# Altium footprint library Resettable_Fuse_SMD.PcbLib: 3 footprints
Each footprint in its own frame and in the unit in brackets; x right, y up, seen from the top. Pads: shape width x height; smd on the part's side, far side on the other; paste and mask are expansions set on the pad; w line width, h text height; cw(c..) or ccw(c..) is an arc to the next point about the centre after c.
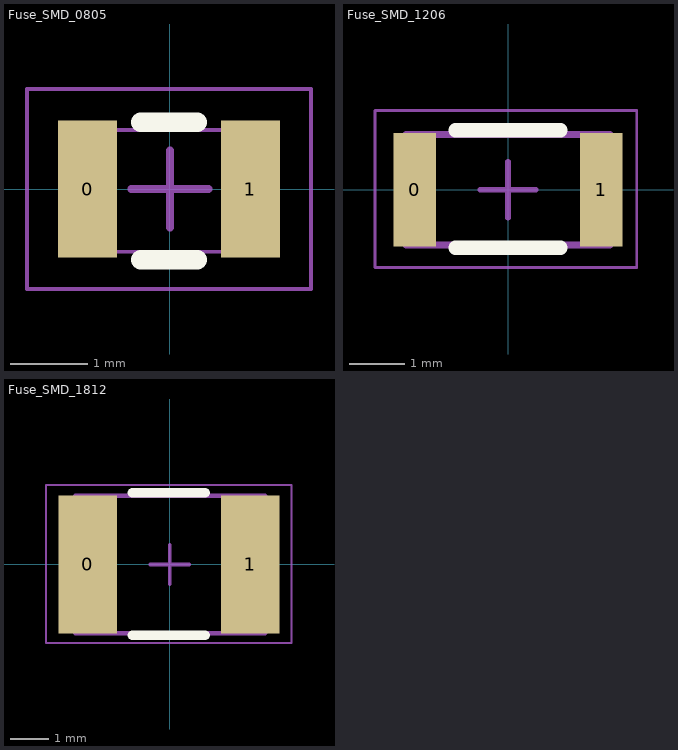
[diagram p0: the footprints below, top view; thin cyan lines are the x and y axes]

## Fuse_SMD_0805 [mil] "Fuse SMD, size 0805"
pads (2):
  rect 30x70 smd: 0(-42,0) 1(41,0)
Top Overlay:
  lines w10: -15,-36 14,-36 ; -15,34 14,34
Mechanical 1:
  lines w2: -44,-32 44,-32 44,30 -44,30 -44,-32
Top Courtyard:
  lines w1.97: -73,-51 -73,51 72,51 72,-51 -73,-51
  lines w3.94: -19.69,0 19.68,0 ; 0,-19.68 0,19.69
Top Designator:
  text ".Designator" at -236.14,-15.74 h47.24
3D body "fuse_smd_0805.step": height 19.68, standoff 0, extent -43.31,-31.32 43.31,29.32

## Fuse_SMD_1206 [mil] "Fuse SMD, size 1206"
pads (2):
  rect 30x80 smd: 0(-66,0) 1(66,0)
Top Overlay:
  lines w10: -37,-41 37,-41 ; -37,42 37,42
Mechanical 1:
  lines w5: -72,-39 -72,39 72,39 72,-39 -72,-39
Top Courtyard:
  lines w1.97: -94,-55 91,-55 91,56 -94,56 -94,-55
  lines w3.94: -19.69,0 19.68,0 ; 0,-19.68 0,19.69
Top Designator:
  text ".Designator" at -236.14,-14.74 h47.24
3D body "fuse_smd_1206.step": height 19.68, standoff 0, extent -68.9,-36.22 68.9,36.22

## Fuse_SMD_1812 [mil] "Fuse SMD, size 1812"
pads (2):
  rect 60x140 smd: 0(-83.41,0) 1(82,0)
Top Overlay:
  lines w10: -38,-72 36,-72 ; -38,73 36,73
Mechanical 1:
  lines w5: -96,-70 97,-70 97,70 -96,70 -96,-70
Top Courtyard:
  lines w1.97: -126,-80 124,-80 124,81 -126,81 -126,-80
  lines w3.94: -19.69,0 19.68,0 ; 0,-19.68 0,19.69
Top Designator:
  text ".Designator" at -236.14,-15.74 h47.24
3D body "miniSMDC150F.STEP": height 17.9, standoff -1, extent -93.11,-67.13 93.11,67.13